# EAGLE library part MSP430G2X12-14 (library ti_msp430)
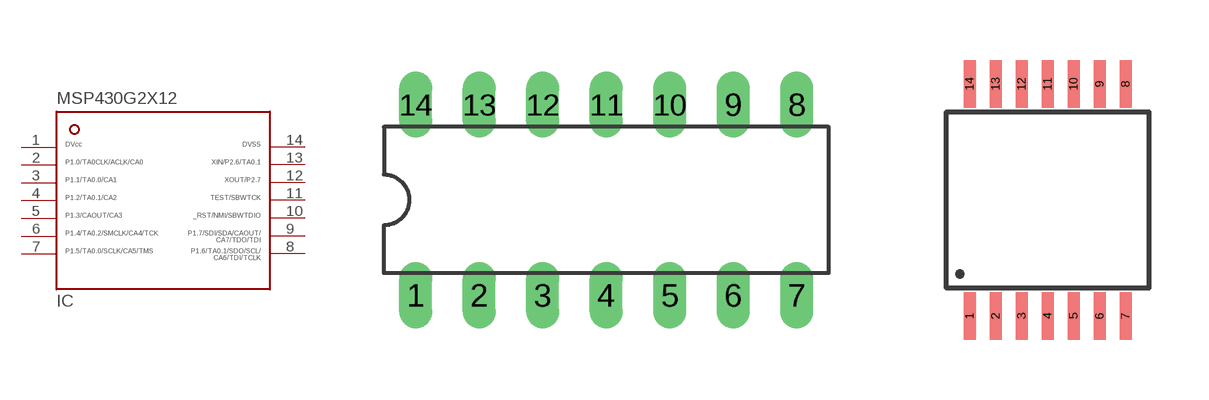
[diagram p6: symbol with the pads of N14; footprints N14, PW14]

Designator prefix IC

## MSP430G2X12-14N14  [N14]
1  1
2  2
3  3
4  4
5  5
6  6
7  7
8  8
9  9
10  10
11  11
12  12
13  13
14  14

## MSP430G2X12-14PW14  [PW14]
Pads as for N14

## Footprint N14 (pad centres in mm)
*** TI: N *** JEDEC: R-PDIP-T14 *** 14 PINS *** ** Plastic In-Line
drill 0.813 long: 1 -7.625,-3.81; 2 -5.085,-3.81; 3 -2.545,-3.81; 4 -0.005,-3.81; 5 2.535,-3.81; 6 5.075,-3.81; 7 7.615,-3.81; 8 7.615,3.81; 9 5.075,3.81; 10 2.535,3.81; 11 -0.005,3.81; 12 -2.545,3.81; 13 -5.085,3.81; 14 -7.625,3.81

## Footprint PW14 (pad centres in mm)
*** TI: PW *** JEDEC: R-PDSO-G14 *** 14 PINS ***
smd 0.3 x 1.2: 1 -1.95,-2.9; 2 -1.3,-2.9; 3 -0.65,-2.9; 4 0,-2.9; 5 0.65,-2.9; 6 1.3,-2.9; 7 1.95,-2.9; 8 1.95,2.9; 9 1.3,2.9; 10 0.65,2.9; 11 0,2.9; 12 -0.65,2.9; 13 -1.3,2.9; 14 -1.95,2.9